# EAGLE library part TEENSY-3.2-2 (library uo_C_SE_Library)
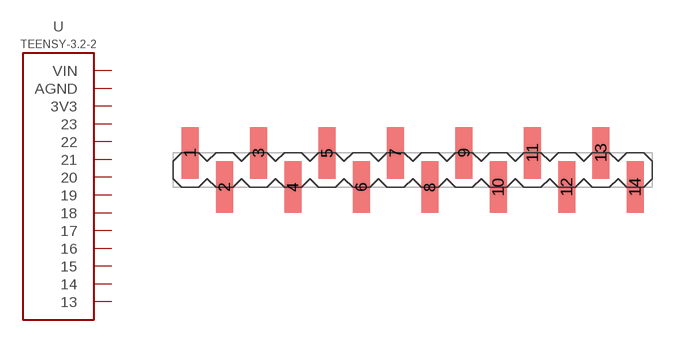
[diagram p7: symbol with the pads of SMD-0.1-1X14; footprint SMD-0.1-1X14]

Designator prefix -

## TEENSY-3.2-2 (MANUFACTURERPARTNUMBER: TSM-114-04-L-SV)  [SMD-0.1-1X14]
1  VIN
2  AGND
3  3V3
4  23
5  22
6  21
7  20
8  19
9  18
10  17
11  16
12  15
13  14
14  13

## Footprint SMD-0.1-1X14 (pad centres in mm)
smd 1.27 x 3.81: 1 -16.51,1.27; 2 -13.97,-1.27; 3 -11.43,1.27; 4 -8.89,-1.27; 5 -6.35,1.27; 6 -3.81,-1.27; 7 -1.27,1.27; 8 1.27,-1.27; 9 3.81,1.27; 10 6.35,-1.27; 11 8.89,1.27; 12 11.43,-1.27; 13 13.97,1.27; 14 16.51,-1.27